# Altium footprint library hava_kalitesi_olcumu.PcbLib: 25 footprints (part 2 of 2)
Each footprint in its own frame and in the unit in brackets; x right, y up, seen from the top. Pads: shape width x height; smd on the part's side, far side on the other; paste and mask are expansions set on the pad; w line width, h text height; cw(c..) or ccw(c..) is an arc to the next point about the centre after c.
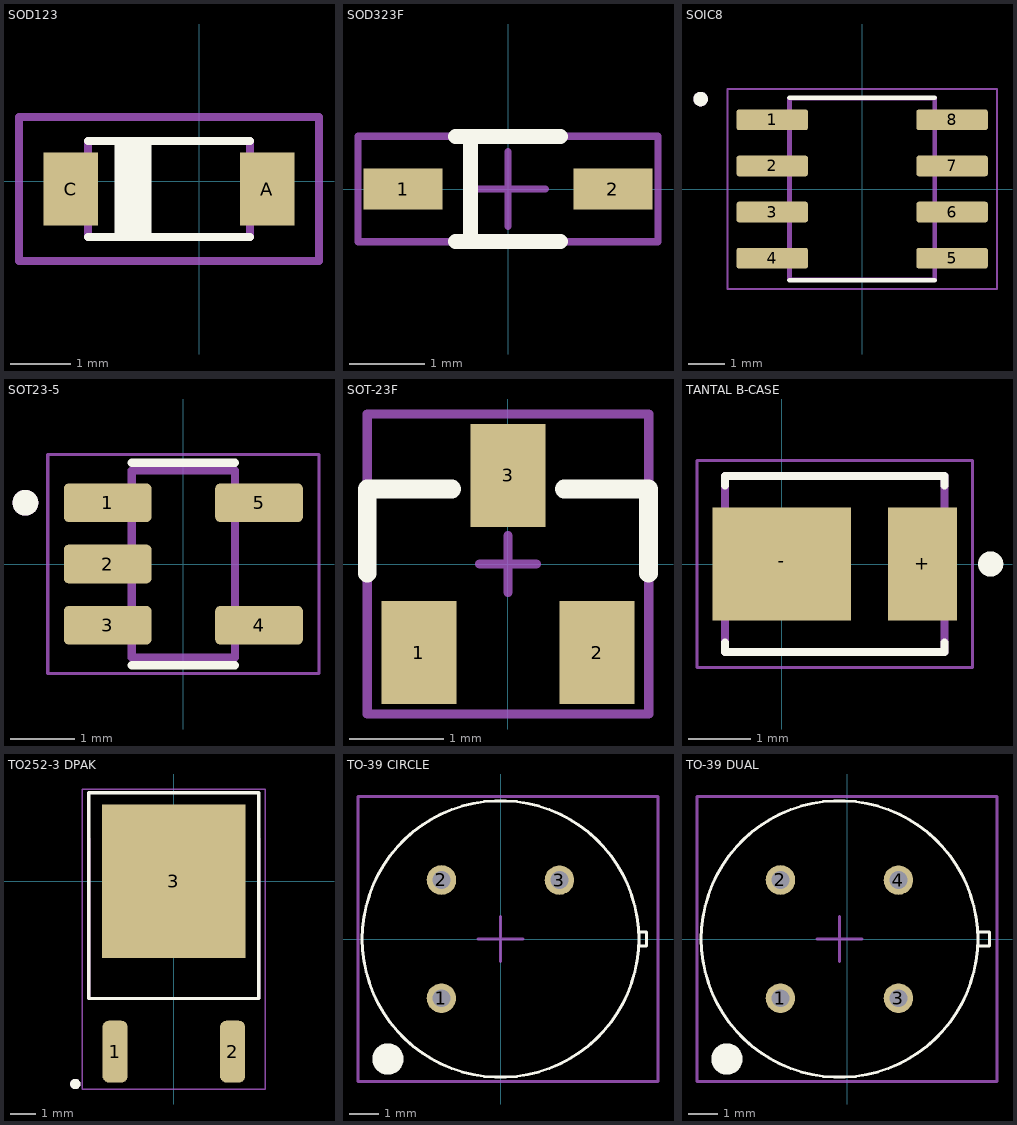
[diagram p1: the footprints below, top view; thin cyan lines are the x and y axes]

## SOD123 [mm]
pads (2):
  rect 0.91x1.22 smd: A(1.127,-0.127) C(-2.143,-0.127)
Top Overlay:
  region: -0.808,-0.928 -1.409,-0.928 -1.409,0.673 -0.808,0.673
  lines w0.127: -1.858,-0.927 0.842,-0.927 ; -1.858,0.673 0.842,0.673
Mechanical 13:
  lines w0.127: -1.858,-0.927 -1.858,0.673 ; 0.842,-0.927 0.842,0.673
Mechanical 15:
  lines w0.127: -3.008,-1.327 -3.008,1.073 1.992,1.073 1.992,-1.327 -3.008,-1.327
3D body "MBR0520LT1G.STEP": height 1.35, standoff 0, extent -2.366,-0.952 1.316,0.648

## SOD323F [mm]
pads (2):
  rect 1.05x0.55 smd mask+0.05: 1(-1.4,0) 2(1.4,0)
Top Overlay:
  lines w0.2: -0.7,-0.7 0.7,-0.7 ; -0.7,0.7 0.7,0.7 ; -0.5,-0.6 -0.5,0.7
Top Component Center:
  lines w0.1: -0.5,0 0.5,0 ; 0,-0.5 0,0.5 ; -2,-0.7 -2,0.7 -0.4,0.7 2,0.7 2,-0.7 -2,-0.7
Mechanical 15:
  lines w0.1: -2,-0.7 2,-0.7 2,0.7 -0.4,0.7 -2,0.7 -2,-0.7
3D body "User Library-SOD323F-1.step": height 1, standoff 0, extent -1.25,-0.675 1.25,0.675

## SOIC8 [mm]
pads (8):
  rrect25% 1.97x0.57 smd: 1(-2.475,1.905) 2(-2.475,0.635) 3(-2.475,-0.635) 4(-2.475,-1.905) 5(2.475,-1.905) 6(2.475,-0.635) 7(2.475,0.635) 8(2.475,1.905)
Top Overlay:
  circle w0.2: c-4.445,2.475 r0.1
  lines w0.127: -2,-2.51 2,-2.51 ; -2,2.51 2,2.51
Mechanical 13:
  circle w0.2: c-4.445,2.475 r0.1
  lines w0.127: -2,-2.5 -2,2.5 2,2.5 2,-2.5 -2,-2.5
Mechanical 15:
  lines w0.05: -3.71,-2.75 -3.71,2.75 3.71,2.75 3.71,-2.75 -3.71,-2.75
3D body "step_temp.STEP": height 1.75, standoff 0, extent -3,-2.45 3,2.45

## SOT23-5 [mm]
pads (5):
  rrect25% 1.36x0.6 smd: 1(-1.175,0.95) 2(-1.175,0) 3(-1.175,-0.95) 4(1.175,-0.95) 5(1.175,0.95)
Top Overlay:
  circle w0.2: c-2.45,0.95 r0.1
  lines w0.127: -0.8,-1.57 0.8,-1.57 ; -0.8,1.57 0.8,1.57
Mechanical 13:
  circle w0.2: c-2.45,0.95 r0.1
  lines w0.127: -0.8,-1.45 0.8,-1.45 0.8,1.45 -0.8,1.45 -0.8,-1.45
Mechanical 15:
  lines w0.05: -2.105,-1.7 -2.105,1.7 2.105,1.7 2.105,-1.7 -2.105,-1.7
3D body "step_temp.STEP": height 1.45, standoff 0, extent -1.4,-1.35 1.4,1.55

## SOT-23F [mm]
pads (3):
  rect 0.8x1.1 smd mask+0.05: 1(-0.95,-0.945) 2(0.95,-0.945) 3(0,0.945)
Top Overlay:
  lines w0.2: -1.5,-0.1 -1.5,0.8 -0.6,0.8 ; 0.6,0.8 1.5,0.8 1.5,-0.1
Top Component Center:
  lines w0.1: -0.3,0 0.3,0 ; 0,-0.3 0,0.3 ; -1.5,-1.6 -1.5,1.6 1.5,1.6 1.5,-1.6 -1.5,-1.6
Mechanical 15:
  lines w0.1: -1.5,-1.6 1.5,-1.6 1.5,1.6 -1.5,1.6 -1.5,-1.6
3D body "SOT23-3.stp": height 1.2, standoff 0.02, extent -1.5,-1.418 1.5,1.418

## TANTAL B-CASE [mm]
pads (2):
  rect 1.1x1.8 smd: +(2.24,0)
  rect 2.2x1.8 smd: -(0,0)
Top Overlay:
  circle w0.2: c3.327,0 r0.1
  lines w0.127: -0.905,-1.25 -0.905,-1.4 2.595,-1.4 2.595,-1.25 ; -0.905,1.25 -0.905,1.4 2.595,1.4 2.595,1.25
Mechanical 13:
  lines w0.127: -0.905,-1.4 2.595,-1.4 2.595,1.4 -0.905,1.4 -0.905,-1.4
Mechanical 15:
  lines w0.05: -1.35,-1.65 3.04,-1.65 3.04,1.65 -1.35,1.65 -1.35,-1.65
3D body "t494b106k020at.stp": height 2.11, standoff 0.01, extent -1.008,-1.476 2.692,1.524

## TO252-3 DPAK [mm]
pads (3):
  rrect50% 0.98x2.4 smd: 1(-2.28,-6.62) 2(2.28,-6.62)
  rect 5.57x5.96 smd paste-4: 3(0,0)
Top Overlay:
  circle w0.2: c-3.825,-7.875 r0.1
  lines w0.127: -3.3,-4.557 3.3,-4.557 3.3,3.429 -3.3,3.429 -3.3,-4.557
Top Paste:
  region: -0.53,2.45 -0.53,0.53 -2.26,0.53 -2.26,2.45
  region: 2.26,2.45 2.26,0.53 0.53,0.53 0.53,2.45
  region: 2.26,-0.53 2.26,-2.45 0.53,-2.45 0.53,-0.53
  region: -0.53,-0.53 -0.53,-2.45 -2.26,-2.45 -2.26,-0.53
Top Component Center:
  lines w0.05: -3.55,3.225 -3.55,3.575 3.55,3.575 3.55,3.225
Mechanical 13:
  circle w0.2: c-3.825,-7.875 r0.1
  lines w0.127: -3.3,1.642 -3.3,-4.557 3.3,-4.557 3.3,1.642
Mechanical 15:
  lines w0.05: -3.55,3.23 -3.55,-8.07 3.55,-8.07 3.55,3.23
3D body "to252-3_p4-56_l6-54_w6-04.stp": height 2.29, standoff -0.01, extent -3.27,-7.239 3.27,2.429

## TO-39 CIRCLE [mm] "GAS DETECTOR"
pads (3):
  round 1 hole 0.6 mask+0.102: 1(-2.001,-2.004) 2(-1.999,1.998) 3(1.996,1.995)
Top Overlay:
  circle w0.1: c0,0 r4.684
  circle w0.55: c-3.81,-4.064 r0.254
  lines w0.1: 4.686,0.242 4.946,0.242 4.946,-0.237 4.688,-0.237
Mechanical 15:
  lines w0.1: -0.762,0 0.762,0 ; 0,-0.762 0,0.762 ; -4.826,-4.826 -4.826,4.826 5.334,4.826 5.334,-4.826 -4.826,-4.826
3D body "USEQGCCAS82100.step": height 4.25, standoff -14.4, extent -4.595,-4.595 4.972,4.595

## TO-39 DUAL [mm] "GAS DETECTOR"
pads (4):
  round 1 hole 0.6 mask+0.102: 1(-2.255,-2.004) 2(-2.253,1.998) 3(1.743,-2.002) 4(1.742,1.995)
Top Overlay:
  circle w0.55: c-4.064,-4.064 r0.254
  circle w0.1: c-0.254,0 r4.684
  lines w0.1: 4.432,0.242 4.826,0.242 4.826,-0.237 4.434,-0.237
Mechanical 15:
  lines w0.1: -1.016,0 0.508,0 ; -0.254,-0.762 -0.254,0.762 ; -5.08,-4.826 -5.08,4.826 5.08,4.826 5.08,-4.826 -5.08,-4.826
3D body "USEQGCDAN82100.step": height 3.9, standoff -14.4, extent -4.849,-4.595 4.831,4.595